# EAGLE library part 12PIN (library JST_ePH)
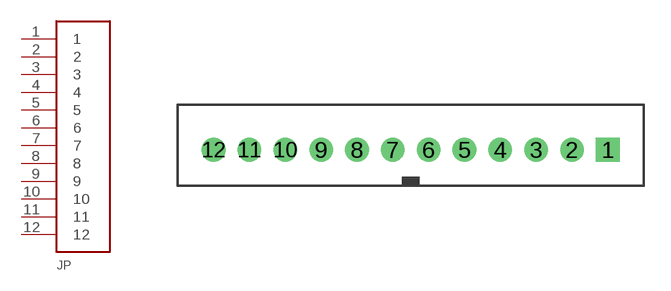
[diagram p6: symbol with the pads of B12B-PH-K-S; footprint B12B-PH-K-S]

Designator prefix JP

## 12PIN  [B12B-PH-K-S]
1  1
2  2
3  3
4  4
5  5
6  6
7  7
8  8
9  9
10  10
11  11
12  12

## Footprint B12B-PH-K-S (pad centres in mm)
drill 0.813 square: 1 11,0
drill 0.813 round: 2 9,0; 3 7,0; 4 5,0; 5 3,0; 6 1,0; 7 -1,0; 8 -3,0; 9 -5,0; 10 -7,0; 11 -9,0; 12 -11,0